# Altium schematic symbol library Schlib.SchLib: 1 symbol
Pins are listed as number, name and electrical type; pins without a type are passive.

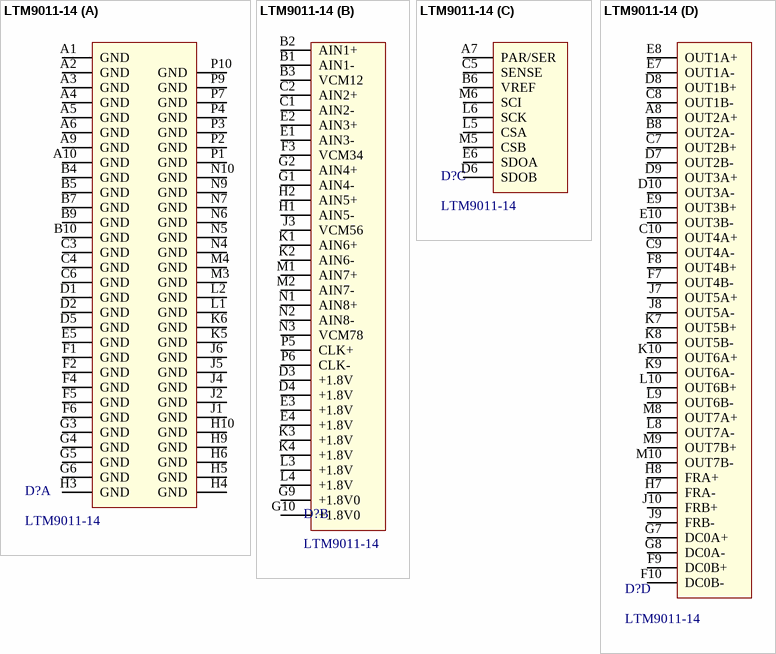
[diagram p0: symbol LTM9011-14]

## LTM9011-14
designator D?
part A pins: A1 GND, A2 GND, A3 GND, A4 GND, A5 GND, A6 GND, A9 GND, A10 GND, B4 GND, B5 GND, B7 GND, B9 GND, B10 GND, C3 GND, C4 GND, C6 GND, D1 GND, D2 GND, D5 GND, E5 GND, F1 GND, F2 GND, F4 GND, F5 GND, F6 GND, G3 GND, G4 GND, G5 GND, G6 GND, H3 GND, H4 GND, H5 GND, H6 GND, H9 GND, H10 GND, J1 GND, J2 GND, J4 GND, J5 GND, J6 GND, K5 GND, K6 GND, L1 GND, L2 GND, M3 GND, M4 GND, N4 GND, N5 GND, N6 GND, N7 GND, N9 GND, N10 GND, P1 GND, P2 GND, P3 GND, P4 GND, P7 GND, P9 GND, P10 GND
part B pins: B1 AIN1-, B2 AIN1+, B3 VCM12, C1 AIN2-, C2 AIN2+, D3 +1.8V, D4 +1.8V, E1 AIN3-, E2 AIN3+, E3 +1.8V, E4 +1.8V, F3 VCM34, G1 AIN4-, G2 AIN4+, G9 +1.8V0, G10 +1.8V0, H1 AIN5-, H2 AIN5+, J3 VCM56, K1 AIN6+, K2 AIN6-, K3 +1.8V, K4 +1.8V, L3 +1.8V, L4 +1.8V, M1 AIN7+, M2 AIN7-, N1 AIN8+, N2 AIN8-, N3 VCM78, P5 CLK+, P6 CLK-
part C pins: A7 PAR/SER, B6 VREF, C5 SENSE, D6 SDOB, E6 SDOA, L5 CSA, L6 SCK, M5 CSB, M6 SCI
part D pins: A8 OUT2A+, B8 OUT2A-, C7 OUT2B+, C8 OUT1B-, C9 OUT4A-, C10 OUT4A+, D7 OUT2B-, D8 OUT1B+, D9 OUT3A+, D10 OUT3A-, E7 OUT1A-, E8 OUT1A+, E9 OUT3B+, E10 OUT3B-, F7 OUT4B-, F8 OUT4B+, F9 DC0B+, F10 DC0B-, G7 DC0A+, G8 DC0A-, H7 FRA-, H8 FRA+, J7 OUT5A+, J8 OUT5A-, J9 FRB-, J10 FRB+, K7 OUT5B+, K8 OUT5B-, K9 OUT6A-, K10 OUT6A+, L8 OUT7A-, L9 OUT6B-, L10 OUT6B+, M8 OUT7A+, M9 OUT7B+, M10 OUT7B-